# Altium footprint library TPS259472ARPWR.PcbLib: 1 footprints
Each footprint in its own frame and in the unit in brackets; x right, y up, seen from the top. Pads: shape width x height; smd on the part's side, far side on the other; paste and mask are expansions set on the pad; w line width, h text height; cw(c..) or ccw(c..) is an arc to the next point about the centre after c.
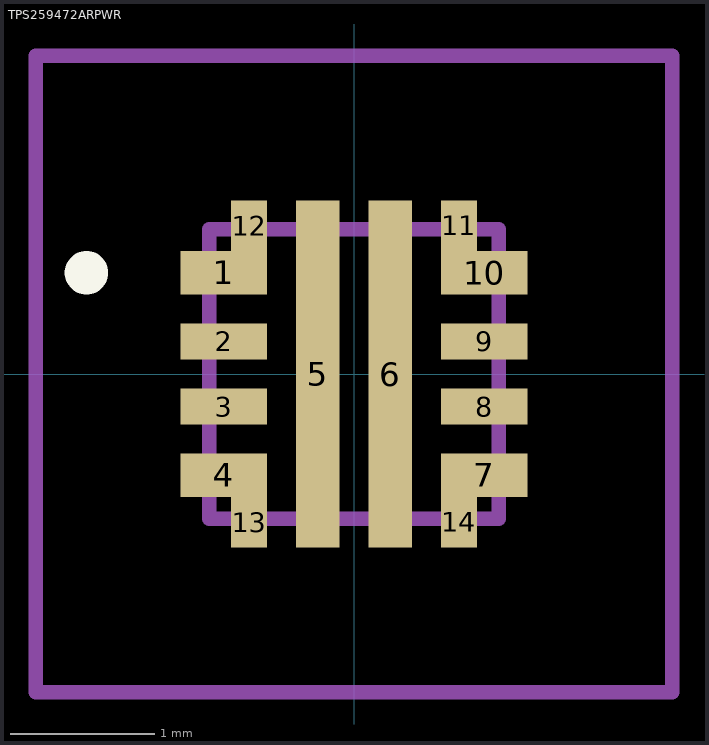
[diagram p0: the footprint, top view; thin cyan lines are the x and y axes]

## TPS259472ARPWR [mm]
pads (14):
  rect 0.6x0.3 smd: 1(-0.9,0.7) 4(-0.9,-0.7) 7(0.9,-0.7) 10(0.9,0.7)
  rect 0.6x0.25 smd: 2(-0.9,0.225) 3(-0.9,-0.225) 8(0.9,-0.225) 9(0.9,0.225)
  rect 0.3x2.4 smd: 5(-0.25,0) 6(0.25,0)
  rect 0.25x0.35 smd: 11(0.725,1.025) 12(-0.725,1.025) 13(-0.725,-1.025) 14(0.725,-1.025)
Top Overlay:
  lines w0.2: -1.9,0.7 -1.9,0.7 ; -1.9,0.7 ccw(c-1.85,0.7) -1.8,0.7 ; -1.9,0.7 cw(c-1.85,0.7) -1.8,0.7 ; -1.9,0.7 -1.9,0.7 ; -1.9,0.7 ccw(c-1.85,0.7) -1.8,0.7 ; -1.8,0.7 -1.8,0.7
Mechanical 15:
  lines w0.1: -1,-1 1,-1 1,1 -1,1 -1,-1
Mechanical 20:
  lines w0.1: -2.2,-2.2 2.2,-2.2 2.2,2.2 -2.2,2.2 -2.2,-2.2